# EAGLE library part INA21X (library p.peter-regulators)
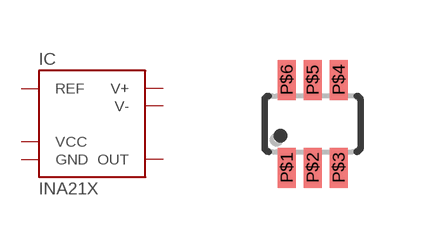
[diagram p2: symbol with the pads of SC-70/6; footprint SC-70/6]

Designator prefix IC

## INA21X  [SC-70/6]
P$1  REF
P$2  GND
P$3  VCC
P$4  V+
P$5  V-
P$6  OUT

## Footprint SC-70/6 (pad centres in mm)
smd 0.45 x 1: P$1 -0.65,-1.1; P$2 0,-1.1; P$3 0.65,-1.1; P$4 0.65,1.1; P$5 0,1.1; P$6 -0.65,1.1